# EAGLE library part ADM7154 (library analog)
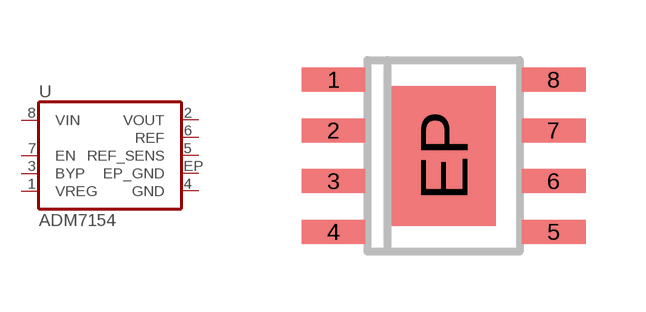
[diagram p2: symbol with the pads of SOIC-8_EP; footprint SOIC-8_EP]

Designator prefix -

## ADM7154ARD  [SOIC-8_EP]
1  VREG  hiz
2  VOUT  out
3  BYP  hiz
4  GND  out
5  REF_SENS  out
6  REF  out
7  EN  hiz
8  VIN  hiz
EP  EP_GND  out

## Footprint SOIC-8_EP (pad centres in mm)
smd 1.6 x 0.6: 1 -2.75,1.905; 2 -2.75,0.635; 3 -2.75,-0.635; 4 -2.75,-1.905; 5 2.75,-1.905; 6 2.75,-0.635; 7 2.75,0.635; 8 2.75,1.905
smd 2.6 x 3.5: EP 0,0